# Altium footprint library Pcb44b0x1.PcbLib: 46 footprints (part 3 of 3)
Each footprint in its own frame and in the unit in brackets; x right, y up, seen from the top. Pads: shape width x height; smd on the part's side, far side on the other; paste and mask are expansions set on the pad; w line width, h text height; cw(c..) or ccw(c..) is an arc to the next point about the centre after c.
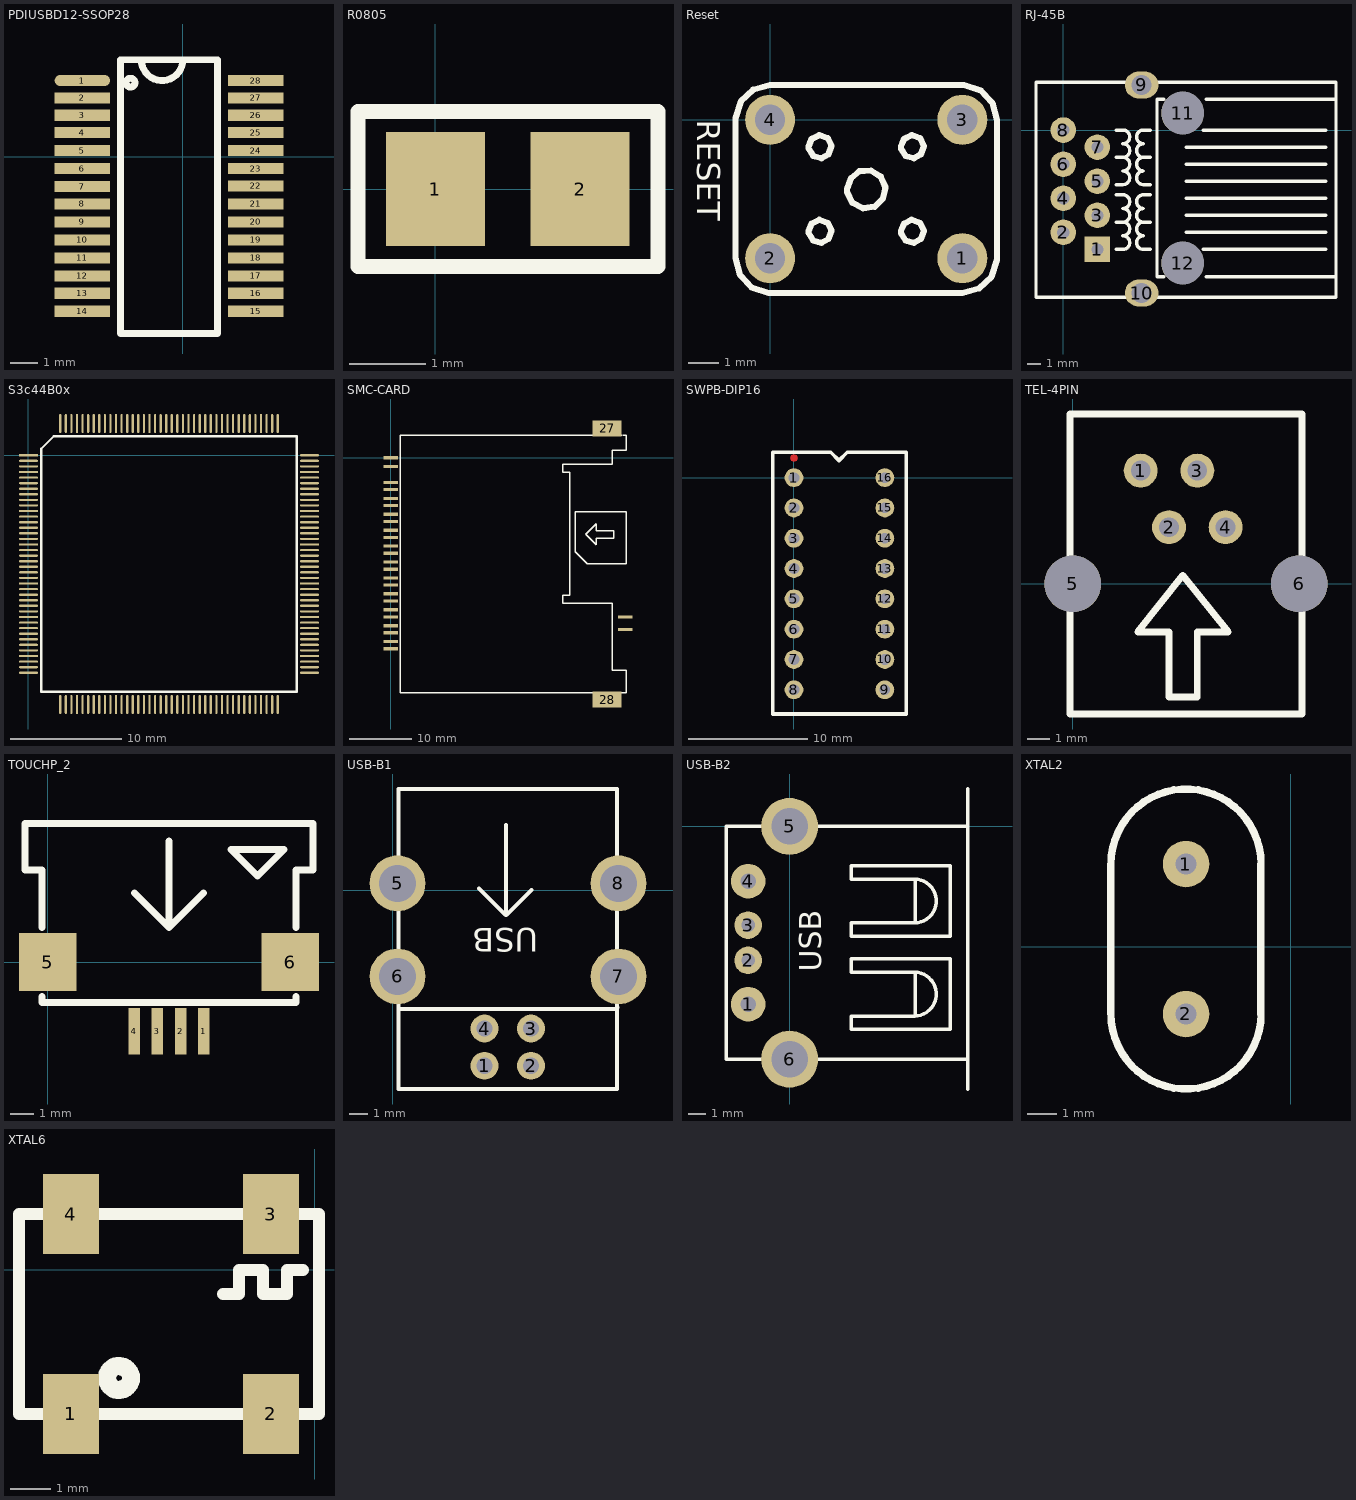
[diagram p2: the footprints below, top view; thin cyan lines are the x and y axes]

## PCBComponent_1 [mm]

## PDIUSBD12-SSOP28 [mil]
pads (28):
  oval 80x16 smd: 1(-145,110)
  rect 80x16 smd: 2(-145,85) 3(-145,60) 4(-145,35) 5(-145,9) 6(-145,-17) 7(-145,-43) 8(-145,-68) 9(-145,-94) 10(-145,-120) 11(-145,-146) 12(-145,-172) 13(-145,-197) 14(-145,-223) 15(105,-223) 16(105,-197) 17(105,-172) 18(105,-146) 19(105,-120) 20(105,-94) 21(105,-68) 22(105,-42) 23(105,-17) 24(105,9) 25(105,35) 26(105,60) 27(105,85) 28(105,110)
Top Overlay:
  circle w10: c-75.56,106.98 r6.41
  lines w10: -60,140 ccw(c-30,140) 0,140 ; -90,-255 50,-255 50,140 -90,140 -90,-255

## R0805 [mm]
pads (2):
  rect 1.3x1.5 smd: 1(0,0) 2(1.9,0)
Top Overlay:
  lines w0.2: -1.016,-1.016 -1.016,1.016 2.921,1.016 2.921,-1.016 -1.016,-1.016

## Reset [mil]
pads (4):
  round 65 hole 39.37: 1(250,-180) 2(0,-180) 3(250,0) 4(0,0)
Top Overlay:
  lines w8: -45,-180 -39,-202 -24,-218 -2,-225 0,-225 250,-225 272,-219 288,-204 295,-182 295,-180 295,0 289,22 274,38 252,45 250,45 0,45 -22,39 -38,24 -45,2 -45,0 -45,-180 ; 50,-147 56,-157 67,-160 76,-155 80,-144 75,-134 64,-130 54,-135 50,-145 50,-147 ; 50,-37 56,-47 67,-50 76,-45 80,-34 75,-24 64,-20 54,-25 50,-35 50,-37 ; 100,-94 107,-108 121,-115 136,-113 147,-102 150,-88 144,-74 131,-66 116,-67 105,-76 100,-90 100,-94 ; 170,-147 176,-157 187,-160 196,-155 200,-144 195,-134 184,-130 174,-135 170,-145 170,-147 ; 170,-37 176,-47 187,-50 196,-45 200,-34 195,-24 184,-20 174,-25 170,-35 170,-37
  text "RESET" at -95,0 h30

## RJ-45B [mm]
pads (12):
  rect 1.905x1.905 hole 0.9: 1(2.54,-8.89)
  round 1.905 hole 0.9: 2(0,-7.62) 3(2.54,-6.35) 4(0,-5.08) 5(2.54,-3.81) 6(0,-2.54) 7(2.54,-1.27) 8(0,0)
  oval 2.5x2 hole 1.5: 9(5.84,3.36) 10(5.84,-12.14)
  round 3.175 hole 3.175: 11(8.89,1.27) 12(8.89,-9.906)
Top Overlay:
  lines w0.254: 3.937,-8.89 4.445,-8.89 ccw(c4.445,-8.382) 4.445,-7.874 ccw(c4.445,-7.366) 4.445,-6.858 ; 3.937,-6.858 4.445,-6.858 ; 3.937,-4.826 4.445,-4.826 cw(c4.445,-5.334) 4.445,-5.842 cw(c4.445,-6.35) 4.445,-6.858 ; 3.937,-4.064 4.445,-4.064 ccw(c4.445,-3.556) 4.445,-3.048 ccw(c4.445,-2.54) 4.445,-2.032 ; 3.937,-2.032 4.445,-2.032 ; 3.937,0 4.445,0 cw(c4.445,-0.508) 4.445,-1.016 cw(c4.445,-1.524) 4.445,-2.032 ; 6.477,-8.89 5.969,-8.89 cw(c5.969,-8.382) 5.969,-7.874 cw(c5.969,-7.366) 5.969,-6.858 ; 6.477,-6.858 5.969,-6.858 ; 6.477,-4.826 5.969,-4.826 ccw(c5.969,-5.334) 5.969,-5.842 ccw(c5.969,-6.35) 5.969,-6.858 ; 6.477,-4.064 5.969,-4.064 cw(c5.969,-3.556) 5.969,-3.048 cw(c5.969,-2.54) 5.969,-2.032 ; 6.477,-2.032 5.969,-2.032 ; 6.477,0 5.969,0 ccw(c5.969,-0.508) 5.969,-1.016 ccw(c5.969,-1.524) 5.969,-2.032 ; 7.493,-10.922 6.985,-10.922 6.985,2.286 7.493,2.286 ; 9.144,-7.62 19.558,-7.62 ; 9.144,-6.35 19.558,-6.35 ; 9.144,-5.08 19.558,-5.08 ; 9.144,-3.81 19.558,-3.81 ; 9.144,-2.54 19.558,-2.54 ; 9.144,-1.27 19.558,-1.27 ; 10.414,-8.89 13.716,-8.89 19.558,-8.89 ; 10.414,0 13.462,0 19.558,0 ; 10.668,-10.922 17.272,-10.922 20.32,-10.922 ; 10.668,2.286 17.272,2.286 20.32,2.286 ; -2.032,-12.446 -1.524,-12.446 17.272,-12.446 20.32,-12.446 20.32,3.556 17.272,3.556 -1.524,3.556 -2.032,3.556 -2.032,-12.446

## S3c44B0x [mm]
pads (160):
  rect 1.7x0.2 smd: 1(0,0)
  oval 1.7x0.2 smd: 2(0,-0.5) 3(0,-1) 4(0,-1.5) 5(0,-2) 6(0,-2.5) 7(0,-3) 8(0,-3.5) 9(0,-4) 10(0,-4.5) 11(0,-5) 12(0,-5.5) 13(0,-6) 14(0,-6.5) 15(0,-7) 16(0,-7.5) 17(0,-8) 18(0,-8.5) 19(0,-9) 20(0,-9.5) 21(0,-10) 22(0,-10.5) 23(0,-11) 24(0,-11.5) 25(0,-12) 26(0,-12.5) 27(0,-13) 28(0,-13.5) 29(0,-14) 30(0,-14.5) 31(0,-15) 32(0,-15.5) 33(0,-16) 34(0,-16.5) 35(0,-17) 36(0,-17.5) 37(0,-18) 38(0,-18.5) 39(0,-19) 40(0,-19.5) 81(25.2,-19.5) 82(25.2,-19) 83(25.2,-18.5) 84(25.2,-18) 85(25.2,-17.5) 86(25.2,-17) 87(25.2,-16.5) 88(25.2,-16) 89(25.2,-15.5) 90(25.2,-15) 91(25.2,-14.5) 92(25.2,-14) 93(25.2,-13.5) 94(25.2,-13) 95(25.2,-12.5) 96(25.2,-12) 97(25.2,-11.5) 98(25.2,-11) 99(25.2,-10.5) 100(25.2,-10) 101(25.2,-9.5) 102(25.2,-9) 103(25.2,-8.5) 104(25.2,-8) 105(25.2,-7.5) 106(25.2,-7) 107(25.2,-6.5) 108(25.2,-6) 109(25.2,-5.5) 110(25.2,-5) 111(25.2,-4.5) 112(25.2,-4) 113(25.2,-3.5) 114(25.2,-3) 115(25.2,-2.5) 116(25.2,-2) 117(25.2,-1.5) 118(25.2,-1) 119(25.2,-0.5) 120(25.2,0)
  oval 0.2x1.7 smd: 41(2.85,-22.35) 42(3.35,-22.35) 43(3.85,-22.35) 44(4.35,-22.35) 45(4.85,-22.35) 46(5.35,-22.35) 47(5.85,-22.35) 48(6.35,-22.35) 49(6.85,-22.35) 50(7.35,-22.35) 51(7.85,-22.35) 52(8.35,-22.35) 53(8.85,-22.35) 54(9.35,-22.35) 55(9.85,-22.35) 56(10.35,-22.35) 57(10.85,-22.35) 58(11.35,-22.35) 59(11.85,-22.35) 60(12.35,-22.35) 61(12.85,-22.35) 62(13.35,-22.35) 63(13.85,-22.35) 64(14.35,-22.35) 65(14.85,-22.35) 66(15.35,-22.35) 67(15.85,-22.35) 68(16.35,-22.35) 69(16.85,-22.35) 70(17.35,-22.35) 71(17.85,-22.35) 72(18.35,-22.35) 73(18.85,-22.35) 74(19.35,-22.35) 75(19.85,-22.35) 76(20.35,-22.35) 77(20.85,-22.35) 78(21.35,-22.35) 79(21.85,-22.35) 80(22.35,-22.35) 121(22.35,2.85) 122(21.85,2.85) 123(21.35,2.85) 124(20.85,2.85) 125(20.35,2.85) 126(19.85,2.85) 127(19.35,2.85) 128(18.85,2.85) 129(18.35,2.85) 130(17.85,2.85) 131(17.35,2.85) 132(16.85,2.85) 133(16.35,2.85) 134(15.85,2.85) 135(15.35,2.85) 136(14.85,2.85) 137(14.35,2.85) 138(13.85,2.85) 139(13.35,2.85) 140(12.85,2.85) 141(12.35,2.85) 142(11.85,2.85) 143(11.35,2.85) 144(10.85,2.85) 145(10.35,2.85) 146(9.85,2.85) 147(9.35,2.85) 148(8.85,2.85) 149(8.35,2.85) 150(7.85,2.85) 151(7.35,2.85) 152(6.85,2.85) 153(6.35,2.85) 154(5.85,2.85) 155(5.35,2.85) 156(4.85,2.85) 157(4.35,2.85) 158(3.85,2.85) 159(3.35,2.85) 160(2.85,2.85)
Top Overlay:
  lines w0.2: 1.135,-21.215 1.135,0.58 2.27,1.715 24.065,1.715 24.065,-21.215 1.135,-21.215

## SMC-CARD [mil]
pads (28):
  rect 90x20 smd: 1(0,-1200) 2(0,-1100) 3(0,-1000) 4(0,-900) 5(0,-800) 6(0,-700) 7(0,-600) 8(0,-500) 9(0,-400) 10(0,-300) 11(0,-200) 12(0,-155) 13(0,-255) 14(0,-355) 15(0,-455) 16(0,-555) 17(0,-655) 18(0,-755) 19(0,-855) 20(0,-955) 21(0,-1055) 22(0,-1155) 23(0,-55) 24(0,0) 25(1475,-1080) 26(1475,-1000)
  rect 180x100 smd: 27(1360,185) 28(1360,-1520)
Top Overlay:
  lines w8: 1452,140 60,140 60,-1475 1480,-1475 1480,-1335 1394,-1335 1394,-915 1080,-915 1080,-864 1125,-864 1125,-92 1080,-92 1080,-40 1394,-40 1394,48 1480,48 1480,140 1457,140 ; 1160,-589 1236,-665 1479,-665 1479,-339 1160,-339 1160,-589 ; 1227.5,-480.5 1293,-546 1293,-505 1403,-505 1403,-458 1293,-458 1293,-415 1227.5,-480.5

## SWPB-DIP16 [mil]
pads (16):
  round 62 hole 35: 1(0,0) 2(0,-100) 3(0,-200) 4(0,-300) 5(0,-400) 6(0,-500) 7(0,-600) 8(0,-700) 9(300,-700) 10(300,-600) 11(300,-500) 12(300,-400) 13(300,-300) 14(300,-200) 15(300,-100) 16(300,0)
Top Layer:
  region: 12.28,65 11.34,69.7 8.68,73.68 4.7,76.34 0,77.28 -4.7,76.34 -8.68,73.68 -11.34,69.7 -12.28,65 -11.34,60.3 -8.68,56.32 -4.7,53.66 0,52.72 4.7,53.66 8.68,56.32 11.34,60.3
Top Overlay:
  lines w12: -70,-780 370,-780 370,84.06 176.06,84.06 148.56,56.56 121.06,84.06 -70,84.06 -70,-780
Bottom Paste:
  lines w7.87: 220,-215 220,185 295,185 ccw(c320,185) 345,185 420,185 420,-215 220,-215
Multi-Layer:
  text "Comment" at -33.5,61.94 h25

## TEL-4PIN [mil]
pads (6):
  round 60 hole 35: 1(120,200) 2(170,100) 3(220,200) 4(270,100)
  round 100 hole 100: 5(0,0) 6(400,0)
Top Overlay:
  lines w12: -5,-230 405,-230 405,300 -5,300 -5,-230 ; 115,-85 170,-85 170,-200 220,-200 220,-85 274.39,-85 194.39,15 115,-85

## TOUCHP_2 [mm]
pads (6):
  rect 0.5x2 smd: 1(6.75,-3) 2(5.75,-3) 3(4.75,-3) 4(3.75,-3)
  rect 2.5x2.5 smd: 5(0,0) 6(10.5,0)
Top Overlay:
  lines w0.305: -0.25,-1.5 -0.25,-1.75 10.75,-1.75 10.75,-1.5 ; -0.25,1.5 -0.25,4 -1,4 -1,6 11.5,6 11.5,4 10.75,4 10.75,1.5 ; 3.75,3 5.25,1.5 ; 5.25,5.25 5.25,1.5 ; 6.75,3 5.25,1.5 ; 7.941,4.874 9.084,3.731 10.227,4.874 8.068,4.874 7.941,4.874

## USB-B1 [mil]
pads (8):
  round 60 hole 35: 1(197,-377) 2(297,-377) 3(297,-297) 4(197,-297)
  round 120 hole 80: 5(10,15) 6(10,-185) 7(485,-185) 8(485,15)
Top Overlay:
  lines w8: 12,-255 482,-255 483,-251 ; 185,4 241,-52 ; 243,-53 243,141 ; 244,-53 298,1 ; 12,-427 482,-427 482,218 12,218 12,-427
  text "USB" at 312,-81 h50

## USB-B2 [mil]
pads (6):
  round 78.74 hole 35.43: 1(-94.49,-405) 4(-94.49,-125)
  round 62.99 hole 31.5: 2(-94.49,-305) 3(-94.49,-225)
  round 129.92 hole 82.68: 5(0,0) 6(0,-530)
Top Overlay:
  lines w8: 285.51,-430 285.51,-334 ; 285.51,-218 285.51,-122 ; 405.51,-598 405.51,85 ; 405.51,-530 -144.49,-530 -144.49,0 405.51,0 ; 140.51,-462 365.51,-462 365.51,-302 140.51,-302 140.51,-332 284.3,-332 cw(c283.77,-382) 284.3,-432 140.51,-432 140.51,-462 ; 140.51,-250 365.51,-250 365.51,-90 140.51,-90 140.51,-120 284.3,-120 cw(c283.77,-170) 284.3,-220 140.51,-220 140.51,-250
  text "USB" at 71.51,-331 h50

## XTAL2 [mil]
pads (2):
  round 62 hole 28: 1(-140,110) 2(-140,-90)
Top Overlay:
  lines w10: -240,-90 ccw(c-140,-90) -40,-90 -40,110 ccw(c-140,110) -240,110 -240,-90

## XTAL6 [mm]
pads (4):
  rect 1.4x2 smd: 1(-6.096,-3.603) 2(-1.096,-3.603) 3(-1.096,1.397) 4(-6.096,1.397)
Top Overlay:
  circle w0.254: c-4.896,-2.703 r0.4
  circle w0.254: c-4.896,-2.703 r0.2
  lines w0.305: -2.296,-0.603 -1.896,-0.603 -1.896,-0.003 -1.296,-0.003 -1.296,-0.603 -0.796,-0.603 -0.696,-0.603 -0.696,-0.003 -0.296,-0.003 ; -7.396,-3.603 -7.396,1.397 0.104,1.397 0.104,-3.603 -7.396,-3.603
Multi-Layer:
  text "Comment" at -7.548,2.6 h0.64